# EAGLE library part 64900629522 (library Wire-to-Board (rev18a))
WR-MPC4-4.20mm Male Dual Row Angled Header,6 pins=>Code : WR-MPC4_Stiftbuchse_2reihig_abgewinkelt_64900629522 <http://katalog.we-online.de/media/thumbs2/eican/thb_WR-MPC4_Stiftbuchse_2reihig_abgewinkelt_64901029522.jpg> Details see: http://katalog.we-online.de/en/em/MPC4_4_20_MALE_DUAL_ROW_ANGLED_HEADER_6490XX29522 Created 2014-06-06, Karrer Zheng 2014 (C) Würth Elektronik
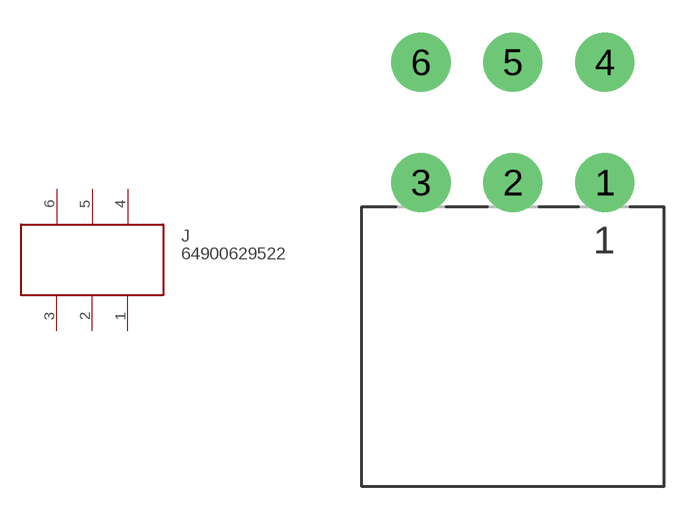
[diagram p279: symbol with the pads of 64900629522; footprint 64900629522]

Designator prefix J

## 64900629522  [64900629522]
1  1  pas
2  2  pas
3  3  pas
4  4  pas
5  5  pas
6  6  pas

## Footprint 64900629522 (pad centres in mm)
WR-MPC4-4.20mm Male Dual Row Angled Header,6 pins
drill 1.8: 1 4.2,-2.75; 2 0,-2.75; 3 -4.2,-2.75; 4 4.2,2.75; 5 0,2.75; 6 -4.2,2.75